# Altium schematic symbol library Batarey_connector.SchLib: 1 symbol
Pins are listed as number, name and electrical type; pins without a type are passive.

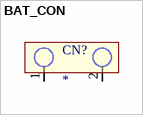
[diagram p0: symbol BAT_CON]

## BAT_CON
designator CN?
Batarey_connection
footprint Batarey_connector
pins: 1 +, 2 -